# Altium footprint library 2227_BoiteBruitage.PcbLib: 17 footprints (part 1 of 2)
Each footprint in its own frame and in the unit in brackets; x right, y up, seen from the top. Pads: shape width x height; smd on the part's side, far side on the other; paste and mask are expansions set on the pad; w line width, h text height; cw(c..) or ccw(c..) is an arc to the next point about the centre after c.
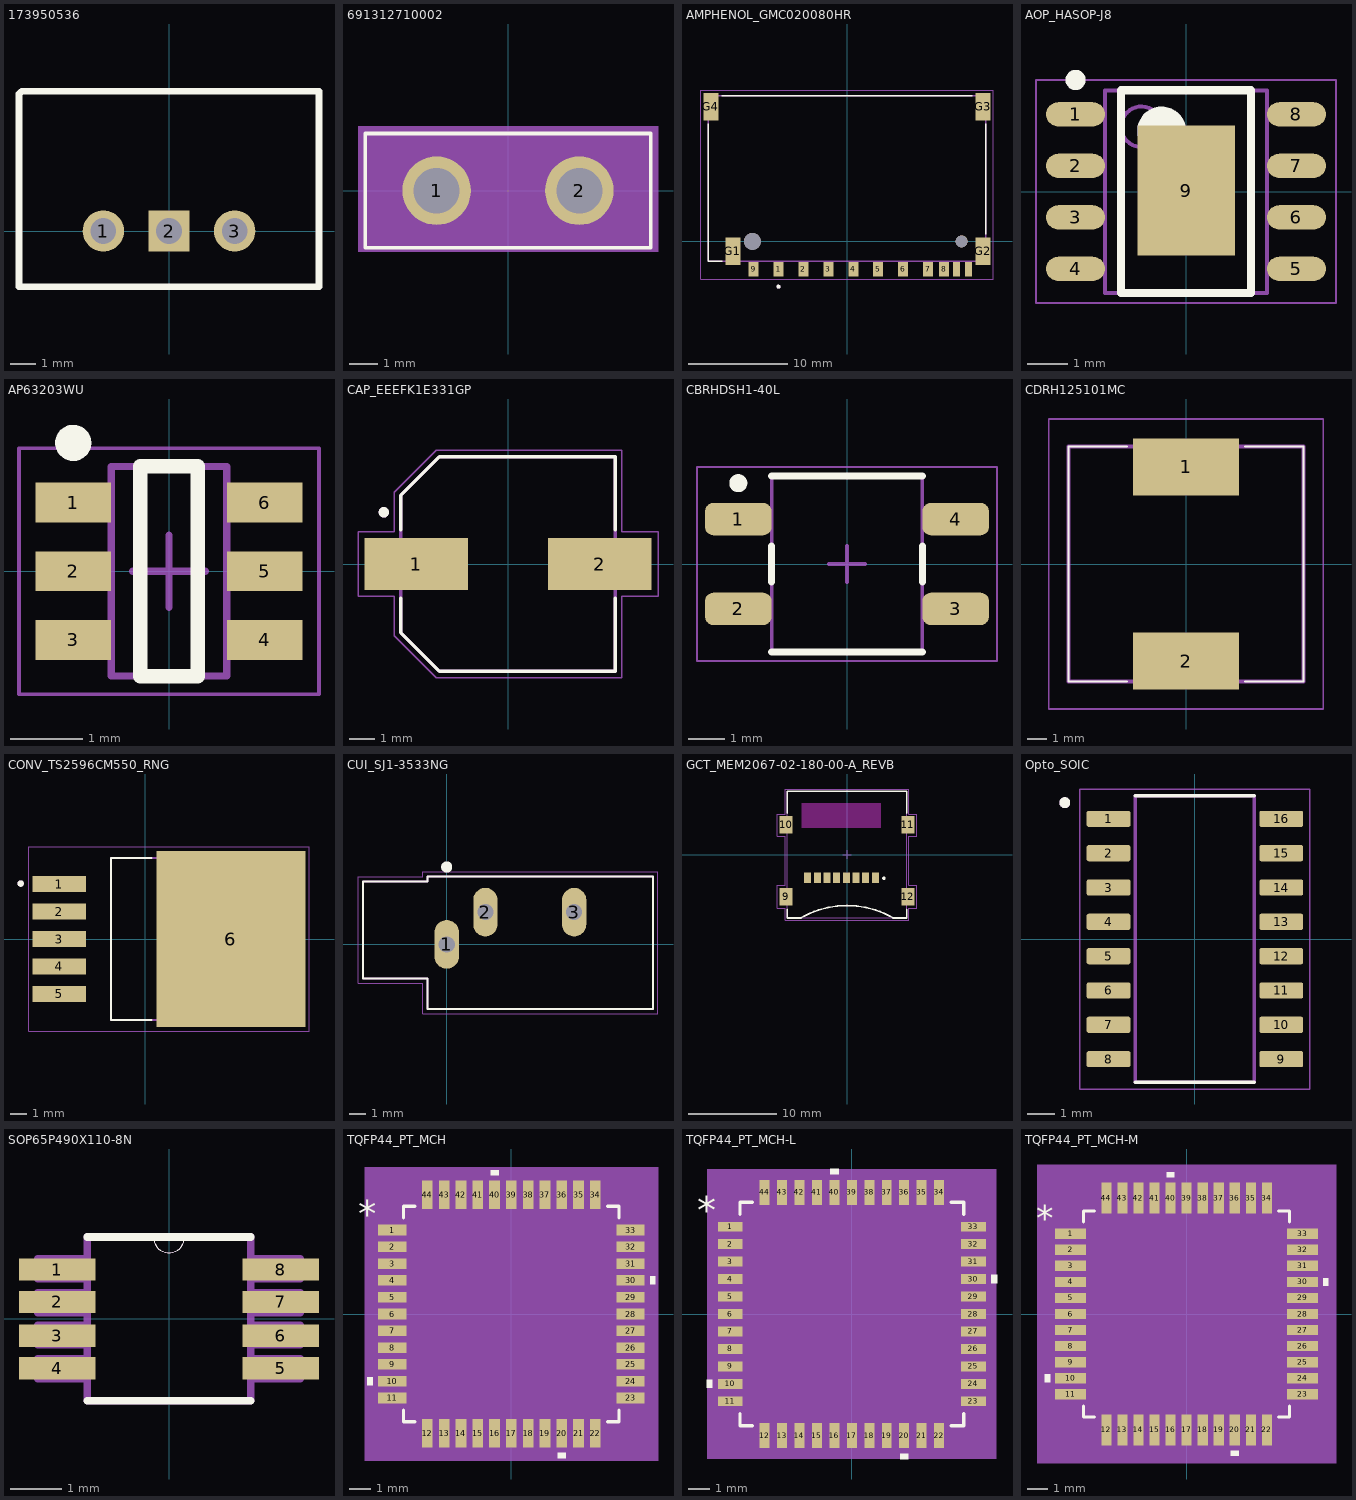
[diagram p0: the footprints below, top view; thin cyan lines are the x and y axes]

## 173950536 [mm]
pads (3):
  round 1.6 hole 1: 1(-2.54,0) 3(2.54,0)
  rect 1.6x1.6 hole 1: 2(0,0)
Top Overlay:
  lines w0.254: -5.8,-2.15 -5.8,5.3 ; -5.8,-2.15 5.8,-2.15 ; -5.8,-2.15 5.8,-2.15 ; -5.8,-2.15 -5.8,5.3 ; -5.8,5.3 -5.7,5.4 ; -5.8,5.3 -5.7,5.4 ; -5.7,5.4 5.8,5.4 ; -5.7,5.4 5.8,5.4 ; 5.8,-2.15 5.8,5.4 ; 5.8,-2.15 5.8,5.4

## 691312710002 [mm]
pads (2):
  round 2.4 hole 1.6: 1(-2.5,0) 2(2.5,0)
Top Overlay:
  lines w0.127: -5,-2 5,-2 5,2 -5,2 -5,-2
Mechanical 15:
  region: 5.25,-2.134 -5.25,-2.134 -5.25,2.25 5.25,2.25
3D body "691312710002.stp": height 8.75, standoff -3.25, extent -5.102,-1.682 4.898,10.318

## AMPHENOL_GMC020080HR [mm]
height 2.87
pads (17):
  rect 1x1.5 smd: 1(-6.87,-2.8) 2(-4.37,-2.8) 3(-1.87,-2.8) 4(0.63,-2.8) 5(3.13,-2.8) 6(5.63,-2.8) 7(8.13,-2.8) 8(9.75,-2.8) 9(-9.37,-2.8)
  rect 0.7x1.5 smd: 10(10.97,-2.8) 11(12.18,-2.8)
  rect 1.5x2.8 smd: G1(-11.45,-1) G2(13.65,-1) G3(13.65,13.5) G4(-13.65,13.5)
  round 1.7 hole 1.7 unplated: ""(-9.5,0)
  round 1.2 hole 1.2 unplated: ""(11.5,0)
Top Overlay:
  circle w0.2: c-6.87,-4.55 r0.1
  lines w0.127: -13.9,11.78 -13.9,-2 -12.52,-2 ; -12.58,14.6 12.58,14.6 ; 13.9,0.72 13.9,11.78
Mechanical 13:
  circle w0.2: c-6.87,-4.55 r0.1
  lines w0.127: -13.9,-2 -13.9,14.6 13.9,14.6 13.9,-2 -13.9,-2
Mechanical 15:
  lines w0.05: -14.65,-3.8 14.65,-3.8 14.65,15.15 -14.65,15.15 -14.65,-3.8

## AOP_HASOP-J8 [mm] "TSOP, 8-Leads, Body 4,90x3,90mm, Pitch 1,27mm, IPC Medium Density"
height 1
pads (9):
  oval 1.45x0.6 smd: 1(-2.725,1.905) 2(-2.725,0.635) 3(-2.725,-0.635) 4(-2.725,-1.905) 5(2.725,-1.905) 6(2.725,-0.635) 7(2.725,0.635) 8(2.725,1.905)
  rect 2.4x3.2 smd: 9(0.007,0.025)
Top Overlay:
  circle w0.6: c-0.6,1.5 r0.3
  circle w0.25: c-2.725,2.755 r0.125
  lines w0.2: -1.6,-2.5 1.6,-2.5 1.6,2.5 -1.6,2.5 -1.6,-2.5
Mechanical 13:
  circle w0.1: c-1.1,1.6 r0.5
  lines w0.1: -2,-2.5 2,-2.5 2,2.5 -2,2.5 -2,-2.5
Mechanical 15:
  lines w0.05: -3.7,-2.75 3.7,-2.75 3.7,2.75 -3.7,2.75 -3.7,-2.75
  lines w0.1: -0.5,0 0.5,0 ; 0,-0.5 0,0.5
3D body: height 1, standoff 0.08, extent -2,-2.5 2,2.5

## AP63203WU [mm] "SOT23, 6-Leads, Body 2,85x2,80mm, Pitch 0,95mm, IPC Medium Density"
height 1
pads (6):
  rect 1.05x0.55 smd: 1(-1.325,0.95) 2(-1.325,0) 3(-1.325,-0.95) 4(1.325,-0.95) 5(1.325,0) 6(1.325,0.95)
Top Overlay:
  circle w0.25: c-1.325,1.775 r0.125
  lines w0.2: -0.4,-1.45 0.4,-1.45 0.4,1.45 -0.4,1.45 -0.4,-1.45
Mechanical 13:
  lines w0.1: -0.8,-1.45 -0.8,1.45 0.8,1.45 0.8,-1.45 -0.8,-1.45
Mechanical 15:
  lines w0.05: -2.075,-1.7 -2.075,1.7 2.075,1.7 2.075,-1.7 -2.075,-1.7
  lines w0.1: -0.5,0 0.5,0 ; 0,-0.5 0,0.5
3D body: height 1, standoff 0.01, extent -0.8,-1.45 0.8,1.45

## CAP_EEEFK1E331GP [mm]
height 10.2
pads (2):
  rect 4x2 smd: 1(-3.55,0) 2(3.55,0)
Top Overlay:
  circle w0.2: c-4.8,2 r0.1
  lines w0.127: -4.15,-1.32 -4.15,-2.65 -2.65,-4.15 4.15,-4.15 4.15,-1.32 ; -4.15,1.32 -4.15,2.65 -2.65,4.15 4.15,4.15 4.15,1.32
Mechanical 13:
  circle w0.2: c-4.8,2 r0.1
  lines w0.127: -4.15,-2.65 -2.65,-4.15 4.15,-4.15 4.15,4.15 -2.65,4.15 -4.15,2.65 -4.15,-2.65
Mechanical 15:
  lines w0.05: -5.8,-1.25 -5.8,1.25 -4.4,1.25 -4.4,2.775 -2.775,4.4 4.4,4.4 4.4,1.25 5.8,1.25 5.8,-1.25 4.4,-1.25 4.4,-4.4 -2.775,-4.4 -4.4,-2.775 -4.4,-1.25 -5.8,-1.25
3D body "step_temp.STEP": height 10.2, standoff 0, extent -4.85,-4.15 4.85,4.15

## CBRHDSH1-40L [mm] "SOT143, 4-Leads, Body 4,70x7,00mm, Pitch 2,50mm, IPC Medium Density"
height 2.5
pads (4):
  rrect50% 1.85x0.9 smd: 1(-3.025,1.25) 2(-3.025,-1.25) 3(3.025,-1.25) 4(3.025,1.25)
Top Overlay:
  circle w0.25: c-3.025,2.25 r0.125
  lines w0.2: -2.1,-2.45 2.1,-2.45 ; -2.1,-0.5 -2.1,0.5 ; -2.1,2.45 2.1,2.45 ; 2.1,-0.5 2.1,0.5
Mechanical 13:
  lines w0.1: -2.1,-2.45 2.1,-2.45 2.1,2.45 -2.1,2.45 -2.1,-2.45
Mechanical 15:
  lines w0.05: -4.175,-2.7 4.175,-2.7 4.175,2.7 -4.175,2.7 -4.175,-2.7
  lines w0.1: -0.5,0 0.5,0 ; 0,-0.5 0,0.5
3D body: height 2.5, standoff 0.2, extent -2.1,-2.45 2.1,2.45

## CDRH125101MC [mm]
pads (2):
  rect 5.4x2.9 smd: 1(0,4.95) 2(0,-4.95)
Top Overlay:
  lines w0.1: -3,-6 -6,-6 -6,6 -3,6 ; 3,-6 6,-6 6,6 3,6
Mechanical 15:
  lines w0.2: -6,-6 6,-6 6,6 -6,6 -6,-6
Mechanical 20:
  lines w0.1: -7,-7.4 7,-7.4 7,7.4 -7,7.4 -7,-7.4

## CONV_TS2596CM550_RNG [mm]
pads (6):
  rect 3.3x1 smd: 1(-5.3,3.4) 2(-5.3,1.7) 3(-5.3,0) 4(-5.3,-1.7) 5(-5.3,-3.4)
  rect 9.2x10.9 smd paste-6: 6(5.3,0)
Top Overlay:
  circle w0.2: c-7.696,3.429 r0.1
  lines w0.127: 0.38,-5 -2.11,-5 -2.11,5 0.38,5
Top Paste:
  region: 9.56,-5.05 8.4,-5.05 8.4,-3.67 9.56,-3.67
  region: 7.72,-5.05 6.56,-5.05 6.56,-3.67 7.72,-3.67
  region: 5.88,-5.05 4.72,-5.05 4.72,-3.67 5.88,-3.67
  region: 4.04,-5.05 2.88,-5.05 2.88,-3.67 4.04,-3.67
  region: 2.2,-5.05 1.04,-5.05 1.04,-3.67 2.2,-3.67
  region: 9.56,-2.87 8.4,-2.87 8.4,-1.49 9.56,-1.49
  region: 7.72,-2.87 6.56,-2.87 6.56,-1.49 7.72,-1.49
  region: 5.88,-2.87 4.72,-2.87 4.72,-1.49 5.88,-1.49
  region: 4.04,-2.87 2.88,-2.87 2.88,-1.49 4.04,-1.49
  region: 2.2,-2.87 1.04,-2.87 1.04,-1.49 2.2,-1.49
  region: 9.56,-0.69 8.4,-0.69 8.4,0.69 9.56,0.69
  region: 7.72,-0.69 6.56,-0.69 6.56,0.69 7.72,0.69
  region: 5.88,-0.69 4.72,-0.69 4.72,0.69 5.88,0.69
  region: 4.04,-0.69 2.88,-0.69 2.88,0.69 4.04,0.69
  region: 2.2,-0.69 1.04,-0.69 1.04,0.69 2.2,0.69
  region: 9.56,1.49 8.4,1.49 8.4,2.87 9.56,2.87
  region: 7.72,1.49 6.56,1.49 6.56,2.87 7.72,2.87
  region: 5.88,1.49 4.72,1.49 4.72,2.87 5.88,2.87
  region: 4.04,1.49 2.88,1.49 2.88,2.87 4.04,2.87
  region: 2.2,1.49 1.04,1.49 1.04,2.87 2.2,2.87
  region: 9.56,3.67 8.4,3.67 8.4,5.05 9.56,5.05
  region: 7.72,3.67 6.56,3.67 6.56,5.05 7.72,5.05
  region: 5.88,3.67 4.72,3.67 4.72,5.05 5.88,5.05
  region: 4.04,3.67 2.88,3.67 2.88,5.05 4.04,5.05
  region: 2.2,3.67 1.04,3.67 1.04,5.05 2.2,5.05
Mechanical 13:
  circle w0.2: c-7.696,3.429 r0.1
  lines w0.127: -2.11,-5 6.89,-5 6.89,5 -2.11,5 -2.11,-5
Mechanical 15:
  lines w0.05: -7.2,-5.7 10.15,-5.7 10.15,5.7 -7.2,5.7 -7.2,-5.7

## CUI_SJ1-3533NG [mm]
pads (3):
  oval 1.508x3.016 hole 1 square: 1(0,0) 2(2.4,2) 3(7.9,2)
Top Overlay:
  circle w0.34: c0,4.8 r0.17
  lines w0.127: -5.2,-2.1 -1.2,-2.1 -1.2,-4 12.8,-4 12.8,4.2 -1.2,4.2 -1.2,3.9 -5.2,3.9 -5.2,-2.1
Mechanical 13:
  lines w0.127: -5.2,-2.1 -1.2,-2.1 -1.2,-4 12.8,-4 12.8,4.2 -1.2,4.2 -1.2,3.9 -5.2,3.9 -5.2,-2.1
Mechanical 15:
  lines w0.05: -5.5,-2.4 -1.5,-2.4 -1.5,-4.3 13.1,-4.3 13.1,4.5 -1.5,4.5 -1.5,4.2 -5.5,4.2 -5.5,-2.4

## GCT_MEM2067-02-180-00-A_REVB [mm]
pads (12):
  rect 0.8x1.2 smd: 1(3.225,-2.625) 2(2.125,-2.625) 3(1.025,-2.625) 4(-0.075,-2.625) 5(-1.175,-2.625) 6(-2.275,-2.625) 7(-3.375,-2.625) 8(-4.475,-2.625)
  rect 1.5x2 smd: 9(-6.945,-4.825) 10(-6.945,3.375) 11(6.945,3.375) 12(6.945,-4.825)
Top Overlay:
  circle w0.2: c4.2,-2.7 r0.1
  lines w0.2: -6.8,-6.275 -6.8,-7.225 -5.25,-7.225 ; -6.8,4.725 -6.8,7.225 6.8,7.225 6.8,4.725 ; -5.226,-7.211 cw(c0,-16.264) 5.226,-7.211 ; 5.25,-7.225 6.8,-7.225 6.8,-6.275
Keep-Out Layer:
  region: 3.85,3.028 -5.155,3.028 -5.155,5.825 3.85,5.825
Mechanical 13:
  lines w0.1: -6.8,2.77 -7.3,2.77 -7.3,3.97 -6.8,3.97 ; -0.5,0 0.5,0 ; 0,-0.5 0,0.5 ; -6.8,-5.4 -7.3,-5.4 -7.3,-4.2 -6.8,-4.2 ; -6.8,-5.4 -6.8,-4.2 ; -6.8,-5.4 -6.8,-7.225 6.8,-7.225 6.8,-5.4 ; -6.8,-4.2 -6.8,7.225 6.8,7.225 6.8,3.97 ; 6.8,-5.4 6.8,-4.2 ; 6.8,-5.4 7.3,-5.4 7.3,-4.2 6.8,-4.2 ; 6.8,-4.2 6.8,2.77 ; 6.8,2.77 6.8,3.97 ; 6.8,2.77 7.3,2.77 7.3,3.97 6.8,3.97
Mechanical 15:
  lines w0.05: -7.95,-6.096 -7.061,-6.096 -7.061,-7.468 7.061,-7.468 7.061,-6.096 7.95,-6.096 7.95,-3.505 7.061,-3.505 7.061,2.108 7.95,2.108 7.95,4.597 7.061,4.597 7.061,7.468 -7.061,7.468 -7.061,4.597 -7.95,4.597 -7.95,2.108 -7.061,2.108 -7.061,-3.505 -7.95,-3.505 -7.95,-6.096

## Opto_SOIC [mm]
pads (16):
  rrect25% 1.62x0.6 smd: 1(-3.195,4.445) 2(-3.195,3.175) 3(-3.195,1.905) 4(-3.195,0.635) 5(-3.195,-0.635) 6(-3.195,-1.905) 7(-3.195,-3.175) 8(-3.195,-4.445) 9(3.195,-4.445) 10(3.195,-3.175) 11(3.195,-1.905) 12(3.195,-0.635) 13(3.195,0.635) 14(3.195,1.905) 15(3.195,3.175) 16(3.195,4.445)
Top Overlay:
  circle w0.2: c-4.815,5.045 r0.1
  lines w0.127: -2.2,-5.3 2.2,-5.3 ; -2.2,5.3 2.2,5.3
Mechanical 13:
  circle w0.2: c-4.815,5.045 r0.1
  lines w0.127: -2.2,-5.3 2.2,-5.3 2.2,5.3 -2.2,5.3 -2.2,-5.3
Mechanical 15:
  lines w0.05: -4.255,-5.55 4.255,-5.55 4.255,5.55 -4.255,5.55 -4.255,-5.55

## SOP65P490X110-8N [mil]
pads (8):
  rect 59x17 smd: 1(-86,38) 2(-86,13) 3(-86,-13) 4(-86,-38) 5(86,-38) 6(86,-13) 7(86,13) 8(86,38)
Top Overlay:
  lines w0: -12,63 ccw(c0,63) 12,63
  lines w6: -63,-63 63,-63 ; -63,63 -12,63 12,63 63,63
Mechanical 13:
  lines w0: -12,63 ccw(c0,63) 12,63
  lines w6: -101,-46 -101,-31 -63,-31 -63,-46 -101,-46 ; -101,-20 -101,-5 -63,-5 -63,-20 -101,-20 ; -101,5 -101,20 -63,20 -63,5 -101,5 ; -101,31 -101,46 -63,46 -63,31 -101,31 ; -63,-63 63,-63 63,63 12,63 -12,63 -63,63 -63,-63 ; 63,-46 63,-31 101,-31 101,-46 63,-46 ; 63,-20 63,-5 101,-5 101,-20 63,-20 ; 63,5 63,20 101,20 101,5 63,5 ; 63,31 63,46 101,46 101,31 63,31
3D body "step_temp.STEP": height 43.31, standoff 0, extent -96.46,-59.06 96.46,59.06

## TQFP44_PT_MCH [mil]
pads (44):
  rect 53x20 smd paste+0 mask+0: 1(-223.5,157.48) 2(-223.5,125.98) 3(-223.5,94.49) 4(-223.5,62.99) 5(-223.5,31.5) 6(-223.5,0) 7(-223.5,-31.5) 8(-223.5,-62.99) 9(-223.5,-94.49) 10(-223.5,-125.98) 11(-223.5,-157.48) 23(223.5,-157.48) 24(223.5,-125.98) 25(223.5,-94.49) 26(223.5,-62.99) 27(223.5,-31.5) 28(223.5,0) 29(223.5,31.5) 30(223.5,62.99) 31(223.5,94.49) 32(223.5,125.98) 33(223.5,157.48)
  rect 20x53 smd paste+0 mask+0: 12(-157.48,-223.5) 13(-125.98,-223.5) 14(-94.49,-223.5) 15(-62.99,-223.5) 16(-31.5,-223.5) 17(0,-223.5) 18(31.5,-223.5) 19(62.99,-223.5) 20(94.49,-223.5) 21(125.98,-223.5) 22(157.48,-223.5) 34(157.48,223.5) 35(125.98,223.5) 36(94.49,223.5) 37(62.99,223.5) 38(31.5,223.5) 39(0,223.5) 40(-31.5,223.5) 41(-62.99,223.5) 42(-94.49,223.5) 43(-125.98,223.5) 44(-157.48,223.5)
Top Overlay:
  region: -260,-118.48 -270,-118.48 -270,-133.48 -260,-133.48
  region: 101.99,-260 86.99,-260 86.99,-270 101.99,-270
  region: 260,70.49 270,70.49 270,55.49 260,55.49
  region: -24,260 -39,260 -39,270 -24,270
  lines w6: -202,-180.58 -202,-202 -180.58,-202 ; -202,180.58 -202,202 -180.58,202 ; 180.58,-202 202,-202 202,-180.58 ; 180.58,202 202,202 202,180.58
  text "*" at -287.5,163.23 h50
Mechanical 5:
  region: 275,-275 -275,-275 -275,275 275,275
Mechanical 13:
  drawing of 181 lines, arcs and shapes, not listed
  text "*" at -194.5,148.23 h50
Mechanical 15:
  region: -177.48,-207 -207,-207 -207,-177.48 -260,-177.48 -260,177.48 -207,177.48 -207,207 -177.48,207 -177.48,260 177.48,260 177.48,207 207,207 207,177.48 260,177.48 260,-177.48 207,-177.48 207,-207 177.48,-207 177.48,-260 -177.48,-260
  lines w6: -260,-177.48 -207,-177.48 -207,-207 -177.48,-207 -177.48,-260 177.48,-260 177.48,-207 207,-207 207,-177.48 260,-177.48 260,177.48 207,177.48 207,207 177.48,207 177.48,260 -177.48,260 -177.48,207 -207,207 -207,177.48 -260,177.48 -260,-177.48
3D body "TQFP44_PT_MCH.step": height 47.09, standoff 0, extent -235.98,-235.98 235.98,235.98

## TQFP44_PT_MCH-L [mil]
pads (44):
  rect 45x18 smd paste+0 mask+0: 1(-219.5,157.48) 2(-219.5,125.98) 3(-219.5,94.49) 4(-219.5,62.99) 5(-219.5,31.5) 6(-219.5,0) 7(-219.5,-31.5) 8(-219.5,-62.99) 9(-219.5,-94.49) 10(-219.5,-125.98) 11(-219.5,-157.48) 23(219.5,-157.48) 24(219.5,-125.98) 25(219.5,-94.49) 26(219.5,-62.99) 27(219.5,-31.5) 28(219.5,0) 29(219.5,31.5) 30(219.5,62.99) 31(219.5,94.49) 32(219.5,125.98) 33(219.5,157.48)
  rect 18x45 smd paste+0 mask+0: 12(-157.48,-219.5) 13(-125.98,-219.5) 14(-94.49,-219.5) 15(-62.99,-219.5) 16(-31.5,-219.5) 17(0,-219.5) 18(31.5,-219.5) 19(62.99,-219.5) 20(94.49,-219.5) 21(125.98,-219.5) 22(157.48,-219.5) 34(157.48,219.5) 35(125.98,219.5) 36(94.49,219.5) 37(62.99,219.5) 38(31.5,219.5) 39(0,219.5) 40(-31.5,219.5) 41(-62.99,219.5) 42(-94.49,219.5) 43(-125.98,219.5) 44(-157.48,219.5)
Top Overlay:
  region: -24,252 -39,252 -39,262 -24,262
  region: 252,70.49 262,70.49 262,55.49 252,55.49
  region: 101.99,-252 86.99,-252 86.99,-262 101.99,-262
  region: -252,-118.48 -262,-118.48 -262,-133.48 -252,-133.48
  lines w6: -202,-179.58 -202,-202 -179.58,-202 ; -202,179.58 -202,202 -179.58,202 ; 179.58,-202 202,-202 202,-179.58 ; 179.58,202 202,202 202,179.58
  text "*" at -279.5,163.23 h50
Mechanical 5:
  region: 261,-261 -261,-261 -261,261 261,261
Mechanical 13:
  drawing of 181 lines, arcs and shapes, not listed
  text "*" at -194.5,148.23 h50
Mechanical 15:
  region: -170.48,-201 -201,-201 -201,-170.48 -246,-170.48 -246,170.48 -201,170.48 -201,201 -170.48,201 -170.48,246 170.48,246 170.48,201 201,201 201,170.48 246,170.48 246,-170.48 201,-170.48 201,-201 170.48,-201 170.48,-246 -170.48,-246
  lines w6: -246,-170.48 -246,170.48 -201,170.48 -201,201 -170.48,201 -170.48,246 170.48,246 170.48,201 201,201 201,170.48 246,170.48 246,-170.48 201,-170.48 201,-201 170.48,-201 170.48,-246 -170.48,-246 -170.48,-201 -201,-201 -201,-170.48 -246,-170.48
3D body "TQFP44_PT_MCH.step": height 47.09, standoff 0, extent -235.98,-235.98 235.98,235.98

## TQFP44_PT_MCH-M [mil]
pads (44):
  rect 61x20 smd paste+0 mask+0: 1(-227.5,157.48) 2(-227.5,125.98) 3(-227.5,94.49) 4(-227.5,62.99) 5(-227.5,31.5) 6(-227.5,0) 7(-227.5,-31.5) 8(-227.5,-62.99) 9(-227.5,-94.49) 10(-227.5,-125.98) 11(-227.5,-157.48) 23(227.5,-157.48) 24(227.5,-125.98) 25(227.5,-94.49) 26(227.5,-62.99) 27(227.5,-31.5) 28(227.5,0) 29(227.5,31.5) 30(227.5,62.99) 31(227.5,94.49) 32(227.5,125.98) 33(227.5,157.48)
  rect 20x61 smd paste+0 mask+0: 12(-157.48,-227.5) 13(-125.98,-227.5) 14(-94.49,-227.5) 15(-62.99,-227.5) 16(-31.5,-227.5) 17(0,-227.5) 18(31.5,-227.5) 19(62.99,-227.5) 20(94.49,-227.5) 21(125.98,-227.5) 22(157.48,-227.5) 34(157.48,227.5) 35(125.98,227.5) 36(94.49,227.5) 37(62.99,227.5) 38(31.5,227.5) 39(0,227.5) 40(-31.5,227.5) 41(-62.99,227.5) 42(-94.49,227.5) 43(-125.98,227.5) 44(-157.48,227.5)
Top Overlay:
  region: -24,268 -39,268 -39,278 -24,278
  region: 268,70.49 278,70.49 278,55.49 268,55.49
  region: 101.99,-268 86.99,-268 86.99,-278 101.99,-278
  region: -268,-118.48 -278,-118.48 -278,-133.48 -268,-133.48
  lines w6: -202,-180.58 -202,-202 -180.58,-202 ; -202,180.58 -202,202 -180.58,202 ; 180.58,-202 202,-202 202,-180.58 ; 180.58,202 202,202 202,180.58
  text "*" at -295.5,163.23 h50
Mechanical 5:
  region: 293,-293 -293,-293 -293,293 293,293
Mechanical 13:
  drawing of 181 lines, arcs and shapes, not listed
  text "*" at -194.5,148.23 h50
Mechanical 15:
  region: -187.48,-217 -217,-217 -217,-187.48 -278,-187.48 -278,187.48 -217,187.48 -217,217 -187.48,217 -187.48,278 187.48,278 187.48,217 217,217 217,187.48 278,187.48 278,-187.48 217,-187.48 217,-217 187.48,-217 187.48,-278 -187.48,-278
  lines w6: -278,-187.48 -278,187.48 -217,187.48 -217,217 -187.48,217 -187.48,278 187.48,278 187.48,217 217,217 217,187.48 278,187.48 278,-187.48 217,-187.48 217,-217 187.48,-217 187.48,-278 -187.48,-278 -187.48,-217 -217,-217 -217,-187.48 -278,-187.48
3D body "TQFP44_PT_MCH.step": height 47.09, standoff 0, extent -235.98,-235.98 235.98,235.98